# EAGLE library part DAC7552 (library packages(ti))
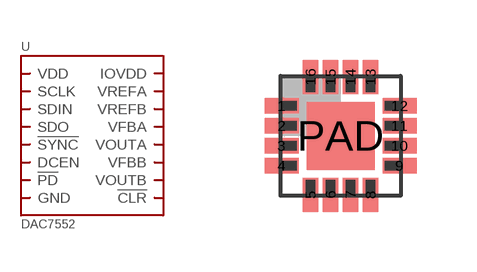
[diagram p4: symbol with the pads of RGT.16; footprint RGT.16]

Designator prefix U

## DAC7552.RGT  [RGT.16]
1  VOUTA
2  VDD
3  GND
4  VOUTB
5  VFBB
6  VREFB
7  !PD!
8  DCEN
9  SDO
10  IOVDD
11  !SYNC!
12  SCLK
13  SDIN
14  !CLR!
15  VREFA
16  VFBA
PAD  GND

## Footprint RGT.16 (pad centres in mm)
smd 0.85 x 0.38: 1 -1.475,0.75; 2 -1.475,0.25; 3 -1.475,-0.25; 4 -1.475,-0.75; 9 1.475,-0.75; 10 1.475,-0.25; 11 1.475,0.25; 12 1.475,0.75
smd 0.38 x 0.85: 5 -0.75,-1.475; 6 -0.25,-1.475; 7 0.25,-1.475; 8 0.75,-1.475; 13 0.75,1.475; 14 0.25,1.475; 15 -0.25,1.475; 16 -0.75,1.475
smd 1.7 x 1.7: PAD 0,0